# Altium schematic symbol library SCH - MCU - SI LABS - SI LABS EFM32G230F32 64-PIN QFN 9X9.SchLib: 1 symbol
Pins are listed as number, name and electrical type; pins without a type are passive.

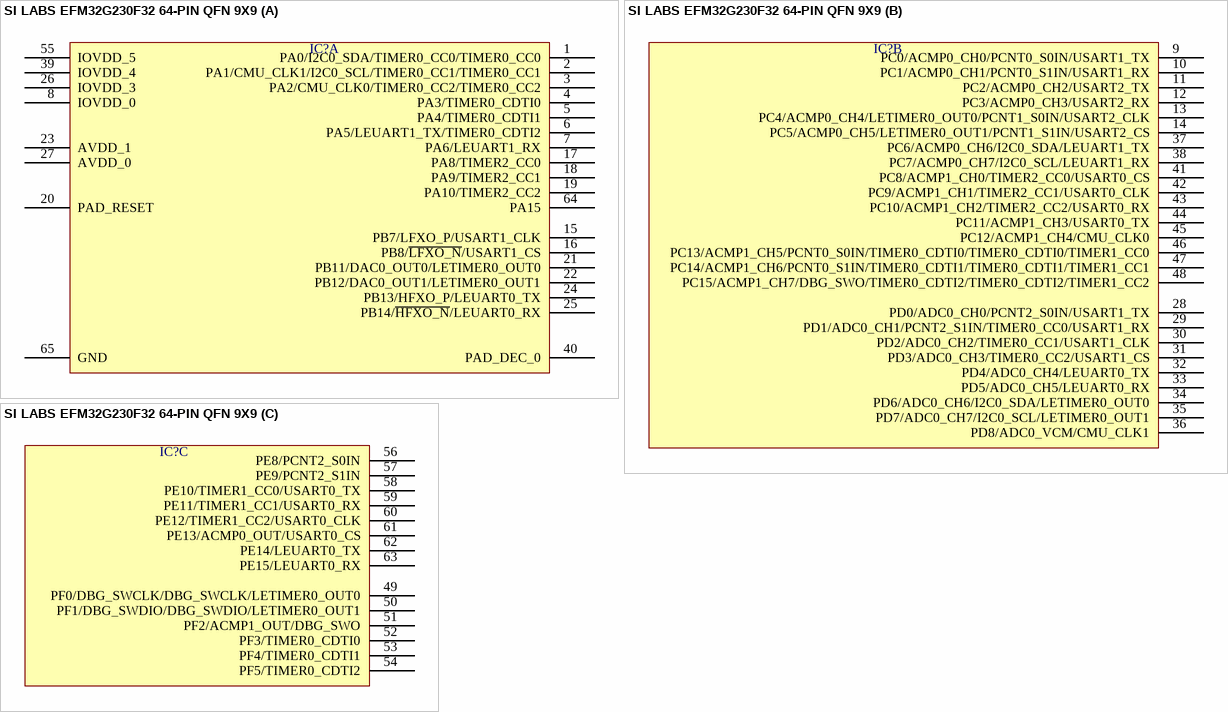
[diagram p0: symbol SI LABS EFM32G230F32 64-PIN QFN 9X9]

## SI LABS EFM32G230F32 64-PIN QFN 9X9
designator IC?  (value not drawn)
part A pins: 1 PA0/I2C0_SDA/TIMER0_CC0/TIMER0_CC0, 2 PA1/CMU_CLK1/I2C0_SCL/TIMER0_CC1/TIMER0_CC1, 3 PA2/CMU_CLK0/TIMER0_CC2/TIMER0_CC2, 4 PA3/TIMER0_CDTI0, 5 PA4/TIMER0_CDTI1, 6 PA5/LEUART1_TX/TIMER0_CDTI2, 7 PA6/LEUART1_RX, 8 IOVDD_0, 15 PB7/LFXO_P/USART1_CLK, 16 PB8/~{LFXO_N}/USART1_CS, 17 PA8/TIMER2_CC0, 18 PA9/TIMER2_CC1, 19 PA10/TIMER2_CC2, 20 PAD_RESET, 21 PB11/DAC0_OUT0/LETIMER0_OUT0, 22 PB12/DAC0_OUT1/LETIMER0_OUT1, 23 AVDD_1, 24 PB13/HFXO_P/LEUART0_TX, 25 PB14/~{HFXO_N}/LEUART0_RX, 26 IOVDD_3, 27 AVDD_0, 39 IOVDD_4, 40 PAD_DEC_0, 55 IOVDD_5, 64 PA15, 65 GND
part B pins: 9 PC0/ACMP0_CH0/PCNT0_S0IN/USART1_TX, 10 PC1/ACMP0_CH1/PCNT0_S1IN/USART1_RX, 11 PC2/ACMP0_CH2/USART2_TX, 12 PC3/ACMP0_CH3/USART2_RX, 13 PC4/ACMP0_CH4/LETIMER0_OUT0/PCNT1_S0IN/USART2_CLK, 14 PC5/ACMP0_CH5/LETIMER0_OUT1/PCNT1_S1IN/USART2_CS, 28 PD0/ADC0_CH0/PCNT2_S0IN/USART1_TX, 29 PD1/ADC0_CH1/PCNT2_S1IN/TIMER0_CC0/USART1_RX, 30 PD2/ADC0_CH2/TIMER0_CC1/USART1_CLK, 31 PD3/ADC0_CH3/TIMER0_CC2/USART1_CS, 32 PD4/ADC0_CH4/LEUART0_TX, 33 PD5/ADC0_CH5/LEUART0_RX, 34 PD6/ADC0_CH6/I2C0_SDA/LETIMER0_OUT0, 35 PD7/ADC0_CH7/I2C0_SCL/LETIMER0_OUT1, 36 PD8/ADC0_VCM/CMU_CLK1, 37 PC6/ACMP0_CH6/I2C0_SDA/LEUART1_TX, 38 PC7/ACMP0_CH7/I2C0_SCL/LEUART1_RX, 41 PC8/ACMP1_CH0/TIMER2_CC0/USART0_CS, 42 PC9/ACMP1_CH1/TIMER2_CC1/USART0_CLK, 43 PC10/ACMP1_CH2/TIMER2_CC2/USART0_RX, 44 PC11/ACMP1_CH3/USART0_TX, 45 PC12/ACMP1_CH4/CMU_CLK0, 46 PC13/ACMP1_CH5/PCNT0_S0IN/TIMER0_CDTI0/TIMER0_CDTI0/TIMER1_CC0, 47 PC14/ACMP1_CH6/PCNT0_S1IN/TIMER0_CDTI1/TIMER0_CDTI1/TIMER1_CC1, 48 PC15/ACMP1_CH7/DBG_SWO/TIMER0_CDTI2/TIMER0_CDTI2/TIMER1_CC2
part C pins: 49 PF0/DBG_SWCLK/DBG_SWCLK/LETIMER0_OUT0, 50 PF1/DBG_SWDIO/DBG_SWDIO/LETIMER0_OUT1, 51 PF2/ACMP1_OUT/DBG_SWO, 52 PF3/TIMER0_CDTI0, 53 PF4/TIMER0_CDTI1, 54 PF5/TIMER0_CDTI2, 56 PE8/PCNT2_S0IN, 57 PE9/PCNT2_S1IN, 58 PE10/TIMER1_CC0/USART0_TX, 59 PE11/TIMER1_CC1/USART0_RX, 60 PE12/TIMER1_CC2/USART0_CLK, 61 PE13/ACMP0_OUT/USART0_CS, 62 PE14/LEUART0_TX, 63 PE15/LEUART0_RX